# Altium schematic symbol library U_MAX4544.SchLib: 1 symbol
Pins are listed as number, name and electrical type; pins without a type are passive.

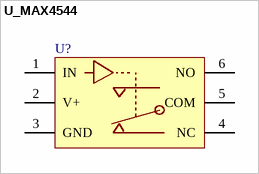
[diagram p0: symbol U_MAX4544]

## U_MAX4544
designator U?
pins: 1 IN, 2 V+, 3 GND, 4 NC (power), 5 COM, 6 NO